# Altium footprint library TCM.PcbLib: 42 footprints (part 1 of 3)
Each footprint in its own frame and in the unit in brackets; x right, y up, seen from the top. Pads: shape width x height; smd on the part's side, far side on the other; paste and mask are expansions set on the pad; w line width, h text height; cw(c..) or ccw(c..) is an arc to the next point about the centre after c.
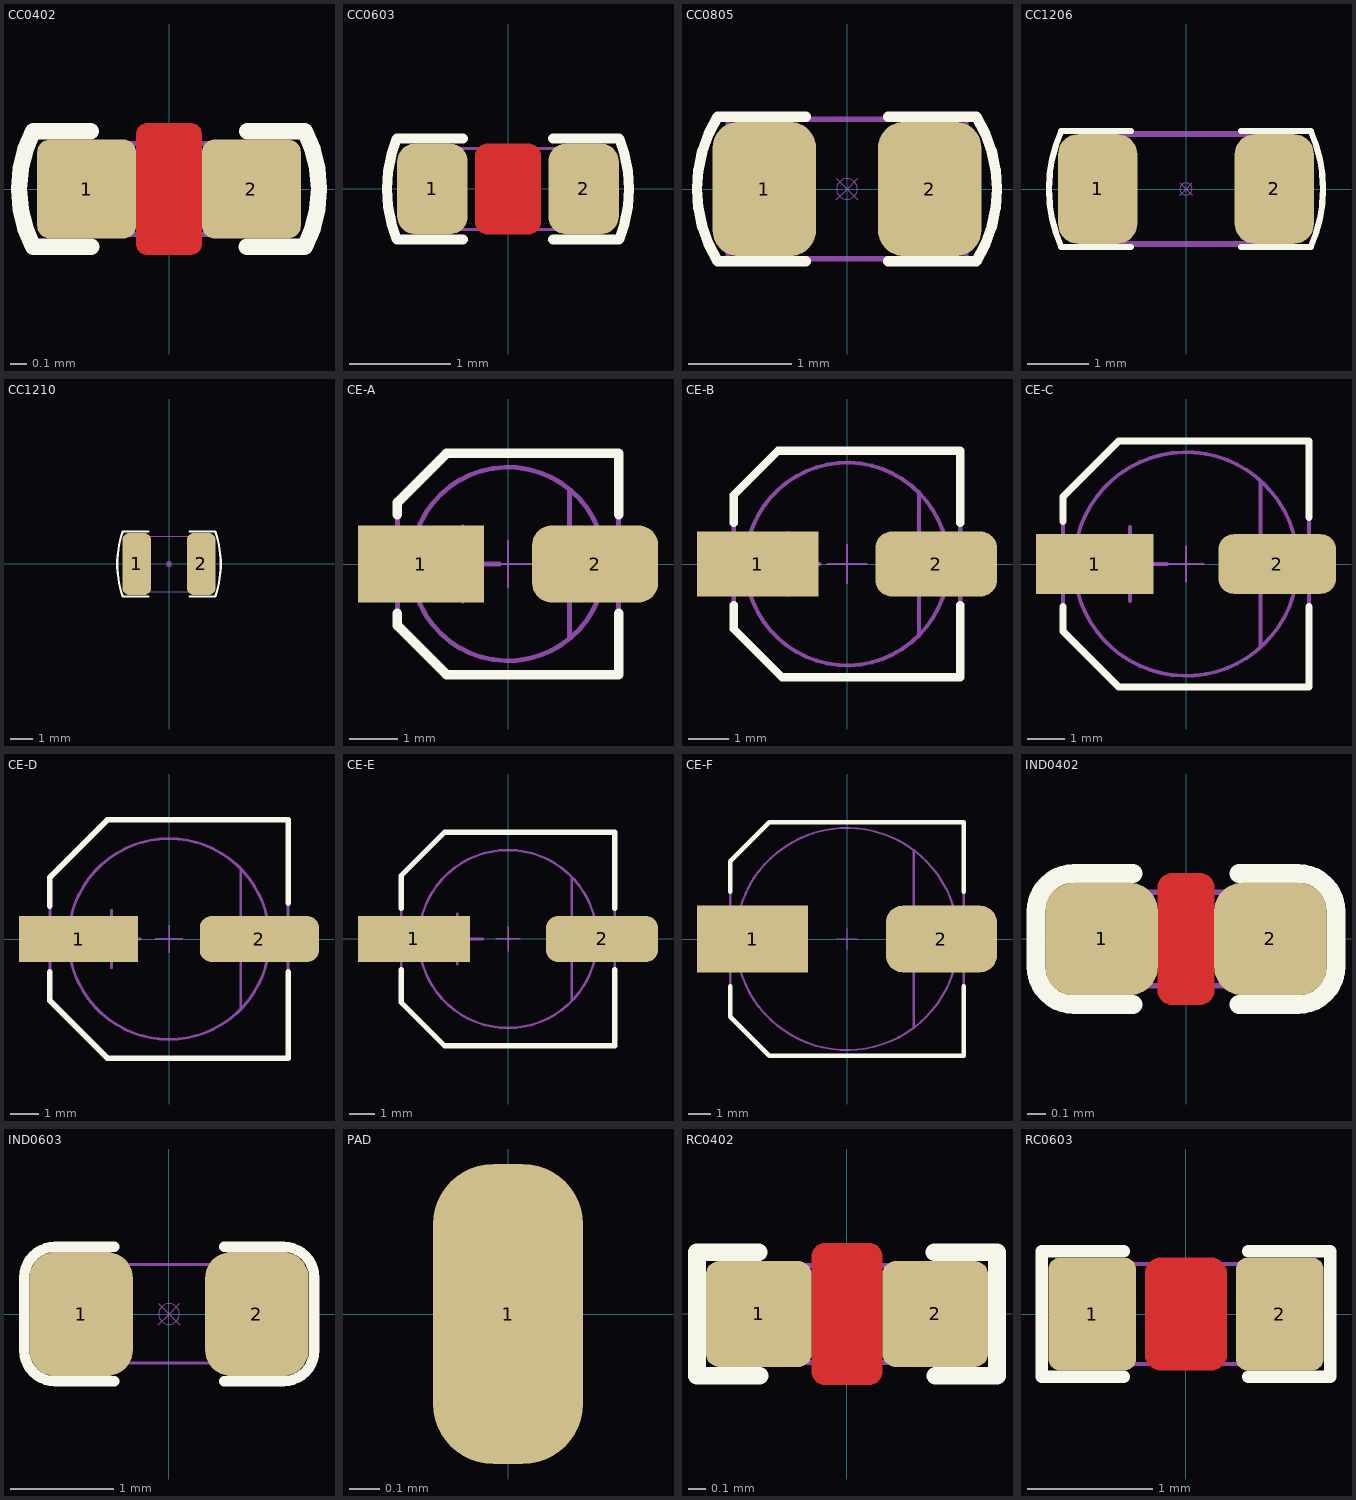
[diagram p0: the footprints below, top view; thin cyan lines are the x and y axes]

## CC0402 [mm] "Chip Capacitor, Body 1.0x0.5mm, IPC High Density"
height 0.55
pads (2):
  rrect25% 0.6x0.6 smd mask+0: 1(-0.5,0) 2(0.5,0)
Top Layer:
  pour cut-out: -0.125,0.4 0.125,0.4 0.14,0.4 0.168,0.389 0.189,0.367 0.2,0.34 0.2,0.325 0.2,-0.325 0.2,-0.34 0.189,-0.367 0.167,-0.389 0.14,-0.4 0.125,-0.4 -0.125,-0.4 -0.14,-0.4 -0.168,-0.389 -0.189,-0.368 -0.2,-0.34 -0.2,-0.325 -0.2,0.325 -0.2,0.34 -0.189,0.367 -0.168,0.389 -0.14,0.4
Top Overlay:
  lines w0.1: -0.474,0.35 -0.825,0.35 ccw(c-0.149,0) -0.825,-0.35 -0.471,-0.35 ; 0.471,-0.35 0.825,-0.35 ccw(c0.149,0) 0.825,0.35 0.474,0.35
  text ".Designator" at -0.725,-0.725 h0.45
Mechanical 13:
  lines w0.01: -0.106,-0.106 0,0 ; -0.106,0.106 0,0 ; 0.106,-0.106 0,0 ; 0.106,0.106 0,0 ; 0.1,0 ccw(c0,0) 0.1,0
  lines w0.03: -0.575,-0.275 -0.575,0.275 0.575,0.275 0.575,-0.275 -0.575,-0.275
  text ".Designator" at -0.725,-0.725 h0.45
3D body "CC0402.STEP": height 0.5, standoff 0, extent -0.5,-0.25 0.5,0.25

## CC0603 [mm] "Chip Capacitor, Body 1.6x0.8mm, IPC High Density"
height 0.6
pads (2):
  rrect50% 0.7x0.9 smd mask+0: 1(-0.75,0) 2(0.75,0)
Top Layer:
  pour cut-out: -0.2,0.45 0.2,0.45 0.225,0.45 0.271,0.431 0.306,0.396 0.325,0.35 0.325,0.325 0.325,-0.325 0.325,-0.35 0.306,-0.396 0.271,-0.431 0.225,-0.45 0.2,-0.45 -0.2,-0.45 -0.225,-0.45 -0.271,-0.431 -0.306,-0.396 -0.325,-0.35 -0.325,-0.325 -0.325,0.325 -0.325,0.35 -0.306,0.396 -0.271,0.431 -0.225,0.45
Top Overlay:
  lines w0.1: -0.449,0.501 -1.103,0.501 ccw(c0.144,0) -1.103,-0.502 -0.446,-0.502 ; 0.446,-0.502 1.103,-0.502 ccw(c-0.144,0) 1.103,0.501 0.449,0.501
  text ".Designator" at -0.725,-0.875 h0.45
Mechanical 13:
  lines w0.01: -0.106,-0.106 0,0 ; -0.106,0.106 0,0 ; 0.106,-0.106 0,0 ; 0.106,0.106 0,0 ; 0.1,0 ccw(c0,0) 0.1,0
  lines w0.03: -0.85,-0.4 -0.85,0.4 0.85,0.4 0.85,-0.4 -0.85,-0.4
  text ".Designator" at -0.725,-0.875 h0.45
3D body "CC0603.STEP": height 0.8, standoff 0, extent -0.8,-0.4 0.8,0.4

## CC0805 [mm] "Chip Capacitor, Body 2.0x1.3mm, IPC High Density"
height 1.1
pads (2):
  rrect50% 1x1.3 smd mask+0: 1(-0.8,0) 2(0.8,0)
Top Overlay:
  lines w0.1: -0.399,0.7 -1.25,0.7 ccw(c-0.131,0) -1.25,-0.7 -0.396,-0.7 ; 0.396,-0.7 1.25,-0.7 ccw(c0.131,0) 1.25,0.7 0.399,0.7
  text ".Designator" at -0.749,-1.143 h0.45
Mechanical 13:
  lines w0.01: -0.106,-0.106 0,0 ; -0.106,0.106 0,0 ; 0.106,-0.106 0,0 ; 0.106,0.106 0,0 ; 0.1,0 ccw(c0,0) 0.1,0
  lines w0.05: -1.15,-0.675 1.15,-0.675 1.15,0.675 -1.15,0.675 -1.15,-0.675
  text ".Designator" at -0.75,-1.15 h0.45
3D body "CC0805.STEP": height 0.6, standoff 0, extent -1,-0.625 1,0.625

## CC1206 [mm] "Chip Resistor, Body 3.2x1.6mm, IPC Medium Density"
height 0.71
pads (2):
  rrect50% 1.3x1.8 smd mask+0: 1(-1.45,0) 2(1.45,0)
Top Overlay:
  lines w0.1: -0.9,-0.95 -2.05,-0.95 cw(c0.106,0) -2.05,0.95 -0.9,0.95 ; 0.9,-0.95 2.05,-0.95 ccw(c-0.106,0) 2.05,0.95 0.9,0.95
  text ".Designator" at -0.75,-1.3 h0.45
Mechanical 13:
  lines w0.01: -0.106,-0.106 0,0 ; -0.106,0.106 0,0 ; 0.106,-0.106 0,0 ; 0.106,0.106 0,0 ; 0.1,0 ccw(c0,0) 0.1,0
  lines w0.1: -1.7,-0.9 1.7,-0.9 1.7,0.9 -1.7,0.9 -1.7,-0.9
  text ".Designator" at -0.744,-1.289 h0.45
3D body "CC1206.stp": height 0.78, standoff 0, extent -1.6,-0.8 1.6,0.8

## CC1210 [mm] "Chip Capasitor, Body 3.2x2.5mm, IPC Medium Density"
height 0.71
pads (2):
  rrect50% 1.3x2.8 smd mask+0: 1(-1.45,0) 2(1.45,0)
Top Overlay:
  lines w0.1: -0.925,-1.465 -2.082,-1.465 cw(c2.209,0) -2.082,1.465 -0.925,1.465 ; 0.925,-1.465 2.082,-1.465 ccw(c-2.209,0) 2.082,1.465 0.925,1.465
  text ".Designator" at -0.743,-1.616 h0.45
Mechanical 13:
  lines w0.01: -0.106,-0.106 0,0 ; -0.106,0.106 0,0 ; 0.106,-0.106 0,0 ; 0.106,0.106 0,0 ; 0.1,0 ccw(c0,0) 0.1,0
  lines w0.03: -1.6,-1.25 -1.6,1.25 1.6,1.25 1.6,-1.25 -1.6,-1.25
  text ".Designator" at -0.751,-1.619 h0.45
3D body "CC1210.STEP": height 0.78, standoff 0, extent -1.6,-1.25 1.6,1.25

## CE-A [mm] "Hitano EHV series size A, d=4 mm, l=5.5 mm"
height 5.5
pads (2):
  rect 2.6x1.6 smd: 1(-1.8,0)
  rrect50% 2.6x1.6 smd: 2(1.8,0)
Top Overlay:
  lines w0.2: -2.286,-1.016 -2.286,-1.27 -1.27,-2.286 2.286,-2.286 2.286,-1.016 ; -2.286,1.016 -2.286,1.27 -1.27,2.286 2.286,2.286 2.286,1.016
Mechanical 14:
  lines w0.05: -0.475,0 0.475,0 ; 0,-0.475 0,0.475
Mechanical 15:
  circle w0.1: c0,0 r2
  lines w0.1: -1.693,0 -0.169,0 ; -0.931,-0.762 -0.931,0.762 ; 1.27,-1.524 1.27,1.524 ; -2.286,-1.27 -2.286,1.27 -1.27,2.286 2.286,2.286 2.286,-2.286 -1.27,-2.286 -2.286,-1.27
3D body "CE-A.stp": height 5.7, standoff 0, extent -2.75,-2.25 2.75,2.25

## CE-B [mm] "Hitano EHV series size B, d=5 mm, l=5.5 mm"
height 5.5
pads (2):
  rect 3x1.6 smd: 1(-2.2,0)
  rrect50% 3x1.6 smd: 2(2.2,0)
Top Overlay:
  lines w0.2: -2.794,-1.016 -2.794,-1.606 -1.606,-2.794 2.794,-2.794 2.794,-1.016 ; -2.794,1.016 -2.794,1.706 -1.706,2.794 2.794,2.794 2.794,1.016
Mechanical 14:
  lines w0.05: -0.475,0 0.475,0 ; 0,-0.475 0,0.475
Mechanical 15:
  circle w0.1: c0,0 r2.5
  lines w0.1: -2.199,0 -0.675,0 ; -1.437,-0.762 -1.437,0.762 ; 1.778,-1.778 1.778,1.778 ; -2.794,-1.606 -1.606,-2.794 2.794,-2.794 2.794,2.794 -1.706,2.794 -2.794,1.706 -2.794,-1.606
3D body "CE-B.STEP": height 5.41, standoff -0.01, extent -2.95,-2.65 2.95,2.65

## CE-C [mm] "Capacitor, Aluminium Electrolytric, 6.6mm L X 6.6mm W X 5.4mm H, IPC Medium Density"
height 5.4
pads (2):
  rect 3.15x1.6 smd: 1(-2.45,0)
  rrect50% 3.15x1.6 smd: 2(2.45,0)
Top Overlay:
  lines w0.2: -3.3,-1.15 -3.3,-1.8 -1.8,-3.3 3.3,-3.3 3.3,-1.15 ; -3.3,1.15 -3.3,1.8 -1.8,3.3 3.3,3.3 3.3,1.25
Mechanical 14:
  lines w0.05: -0.475,0 0.475,0 ; 0,-0.475 0,0.475
Mechanical 15:
  circle w0.1: c0,0 r3
  lines w0.1: -2.5,0 -0.5,0 ; -1.5,-1 -1.5,1 ; 2,-2.2 2,2.2 ; -3.3,-1.8 -3.3,1.8 -1.8,3.3 3.3,3.3 3.3,-3.3 -1.8,-3.3 -3.3,-1.8
3D body "CAPAE660X540N.stp": height 5.7, standoff 0, extent -3.9,-3.4 3.9,3.4

## CE-D [mm] "Capacitor, Aluminium Electrolytric, 8.3mm L X 8.3mm W X 6.5mm H, IPC Medium Density"
height 6.5
pads (2):
  rect 4.15x1.6 smd: 1(-3.15,0)
  rrect50% 4.15x1.6 smd: 2(3.15,0)
Top Overlay:
  lines w0.2: -4.15,-1.15 -4.15,-2.15 -2.15,-4.15 4.15,-4.15 4.15,-1.15 ; -4.15,1.15 -4.15,2.15 -2.15,4.15 4.15,4.15 4.15,1.25
Mechanical 14:
  lines w0.05: -0.475,0 0.475,0 ; 0,-0.475 0,0.475
Mechanical 15:
  circle w0.1: c0,0 r3.5
  lines w0.1: -3,0 -1,0 ; -2,-1 -2,1 ; 2.5,-2.4 2.5,2.4 ; -4.15,-2.15 -2.15,-4.15 4.15,-4.15 4.15,4.15 -2.15,4.15 -4.15,2.15 -4.15,-2.15
3D body "CAPAE830X650N.stp": height 6.5, standoff 0, extent -4.75,-4.25 4.75,4.25

## CE-E [mm]
height 10.5
pads (2):
  rect 4.4x1.8 smd: 1(-3.7,0)
  rrect50% 4.4x1.8 smd: 2(3.7,0)
Top Overlay:
  lines w0.2: -4.2,-1.2 -4.2,-2.5 -2.5,-4.2 4.2,-4.2 4.2,-1.2 ; -4.2,1.2 -4.2,2.5 -2.5,4.2 4.2,4.2 4.2,1.2
Mechanical 14:
  lines w0.05: -0.475,0 0.475,0 ; 0,-0.475 0,0.475
Mechanical 15:
  circle w0.1: c0,0 r3.5
  lines w0.1: -3,0 -1,0 ; -2,-1 -2,1 ; 2.5,-2.4 2.5,2.4 ; -4.2,-2.5 -4.2,2.5 -2.5,4.2 4.2,4.2 4.2,-4.2 -2.5,-4.2 -4.2,-2.5
3D body "CAPAE830X1050N.stp": height 10.5, standoff 0, extent -5,-4.25 5,4.25

## CE-F [mm] "Hitano EHV series size F, d=10 mm, l=10.5 mm"
height 10.5
pads (2):
  rect 5x3 smd: 1(-4.25,0)
  rrect50% 5x3 smd: 2(4.25,0)
Top Overlay:
  lines w0.2: -5.25,-2.125 -5.25,-3.5 -3.5,-5.25 5.25,-5.25 5.25,-2.125 ; -5.25,2.125 -5.25,3.5 -3.5,5.25 5.25,5.25 5.25,2.125
Mechanical 14:
  lines w0.05: -0.475,0 0.475,0 ; 0,-0.475 0,0.475
Mechanical 15:
  circle w0.1: c0,0 r5
  lines w0.1: -4.5,0 -2.5,0 ; -3.5,-1 -3.5,1 ; 3,-4 3,4 ; -5.25,-3.5 -3.5,-5.25 5.25,-5.25 5.25,5.25 -3.5,5.25 -5.25,3.5 -5.25,-3.5
3D body "CAPAE1030X1020N.stp": height 10.2, standoff 0, extent -6,-5.25 6,5.25

## IND0402 [mm] "1.6x0.8mm, IPC Medium Density"
height 0.95
pads (2):
  rrect50% 0.6x0.6 smd mask+0: 1(-0.45,0) 2(0.45,0)
Top Layer:
  pour cut-out: -0.075,0.35 0.075,0.35 0.09,0.35 0.117,0.339 0.138,0.318 0.15,0.29 0.15,0.275 0.15,-0.275 0.15,-0.29 0.139,-0.318 0.117,-0.339 0.09,-0.35 0.075,-0.35 -0.075,-0.35 -0.09,-0.35 -0.118,-0.339 -0.139,-0.317 -0.15,-0.29 -0.15,-0.275 -0.15,0.275 -0.15,0.29 -0.138,0.318 -0.117,0.339 -0.09,0.35
Top Overlay:
  lines w0.1: -0.282,-0.35 -0.597,-0.35 cw(c-0.597,-0.147) -0.8,-0.147 -0.8,0 -0.8,0.147 cw(c-0.597,0.147) -0.597,0.35 -0.282,0.35 ; 0.282,-0.35 0.597,-0.35 ccw(c0.597,-0.147) 0.8,-0.147 0.8,0 0.8,0.147 ccw(c0.597,0.147) 0.597,0.35 0.282,0.35
  text ".Designator" at -0.725,-0.725 h0.45
Mechanical 13:
  lines w0.01: -0.106,-0.106 0,0 ; -0.106,0.106 0,0 ; 0.106,-0.106 0,0 ; 0.106,0.106 0,0 ; 0.1,0 ccw(c0,0) 0.1,0
  lines w0.03: -0.5,-0.25 -0.5,0.25 0.5,0.25 0.5,-0.25 -0.5,-0.25
  text ".Designator" at -0.725,-0.725 h0.45
3D body "CC0402.STEP": height 0.5, standoff 0, extent -0.5,-0.25 0.5,0.25

## IND0603 [mm] "1.6x0.8mm, IPC Medium Density"
height 0.95
pads (2):
  rrect50% 1x1.2 smd mask+0: 1(-0.85,0) 2(0.85,0)
Top Overlay:
  lines w0.1: -0.529,-0.65 -1.1,-0.65 cw(c-1.1,-0.35) -1.4,-0.35 -1.4,0 -1.4,0.35 cw(c-1.1,0.35) -1.1,0.65 -0.529,0.65 ; 0.534,-0.65 1.105,-0.65 ccw(c1.105,-0.35) 1.405,-0.35 1.405,0 1.405,0.35 ccw(c1.105,0.35) 1.105,0.65 0.534,0.65
  text ".Designator" at -0.725,-1.2 h0.45
Mechanical 13:
  lines w0.01: -0.106,-0.106 0,0 ; -0.106,0.106 0,0 ; 0.106,-0.106 0,0 ; 0.106,0.106 0,0 ; 0.1,0 ccw(c0,0) 0.1,0
  lines w0.03: -0.871,-0.474 0.876,-0.474 0.876,0.478 -0.871,0.478 -0.871,-0.474
  text ".Designator" at -0.725,-1.2 h0.45
3D body "INDC1608X95N.stp": height 0.95, standoff -0.05, extent -0.875,-0.475 0.875,0.475

## PAD [mm]
pads (1):
  rrect80% 0.5x1 smd mask+0: 1(0,0)
Top Overlay:
  text ".Designator" at -0.725,-0.8 h0.45
Mechanical 13:
  text ".Designator" at -0.725,-0.8 h0.45

## RC0402 [mm] "Chip Resistor, Body 1.1x0.5mm, IPC Medium Density"
height 0.4
pads (2):
  rrect25% 0.6x0.6 smd mask+0: 1(-0.5,0) 2(0.5,0)
Top Layer:
  pour cut-out: -0.125,0.4 0.125,0.4 0.14,0.4 0.168,0.389 0.189,0.367 0.2,0.34 0.2,0.325 0.2,-0.325 0.2,-0.34 0.189,-0.367 0.167,-0.389 0.14,-0.4 0.125,-0.4 -0.125,-0.4 -0.14,-0.4 -0.168,-0.389 -0.189,-0.368 -0.2,-0.34 -0.2,-0.325 -0.2,0.325 -0.2,0.34 -0.189,0.367 -0.168,0.389 -0.14,0.4
Top Overlay:
  lines w0.1: -0.499,0.35 -0.85,0.35 -0.85,-0.35 -0.496,-0.35 ; 0.496,0.35 0.85,0.35 0.85,-0.35 0.499,-0.35
  text ".Designator" at -0.725,-0.725 h0.45
Mechanical 13:
  lines w0.01: -0.106,-0.106 0,0 ; -0.106,0.106 0,0 ; 0.106,-0.106 0,0 ; 0.106,0.106 0,0 ; 0.1,0 ccw(c0,0) 0.1,0
  lines w0.03: -0.575,-0.275 0.575,-0.275 0.575,0.275 -0.575,0.275 -0.575,-0.275
  text ".Designator" at -0.725,-0.725 h0.45
3D body "RC0402.STEP": height 0.41, standoff 0, extent -0.575,-0.275 0.575,0.275

## RC0603 [mm] "Chip Resistor, Body 1.6x0.8mm, IPC High Density"
height 0.6
pads (2):
  rrect25% 0.7x0.9 smd mask+0: 1(-0.75,0) 2(0.75,0)
Top Layer:
  pour cut-out: -0.2,0.45 0.2,0.45 0.225,0.45 0.271,0.431 0.306,0.396 0.325,0.35 0.325,0.325 0.325,-0.325 0.325,-0.35 0.306,-0.396 0.271,-0.431 0.225,-0.45 0.2,-0.45 -0.2,-0.45 -0.225,-0.45 -0.271,-0.431 -0.306,-0.396 -0.325,-0.35 -0.325,-0.325 -0.325,0.325 -0.325,0.35 -0.306,0.396 -0.271,0.431 -0.225,0.45
Top Overlay:
  lines w0.1: -0.499,0.501 -1.153,0.501 -1.153,-0.502 -0.496,-0.502 ; 0.496,0.505 1.155,0.505 1.155,-0.503 0.499,-0.503
  text ".Designator" at -0.725,-0.875 h0.45
Mechanical 13:
  lines w0.01: -0.106,-0.106 0,0 ; -0.106,0.106 0,0 ; 0.106,-0.106 0,0 ; 0.106,0.106 0,0 ; 0.1,0 ccw(c0,0) 0.1,0
  lines w0.03: -0.85,-0.4 0.85,-0.4 0.85,0.4 -0.85,0.4 -0.85,-0.4
  text ".Designator" at -0.725,-0.875 h0.45
3D body "RC0603.STEP": height 0.56, standoff 0, extent -0.85,-0.4 0.85,0.4